# EAGLE library part M221-P68 (library amd-mach)
AMD MACH SERIES
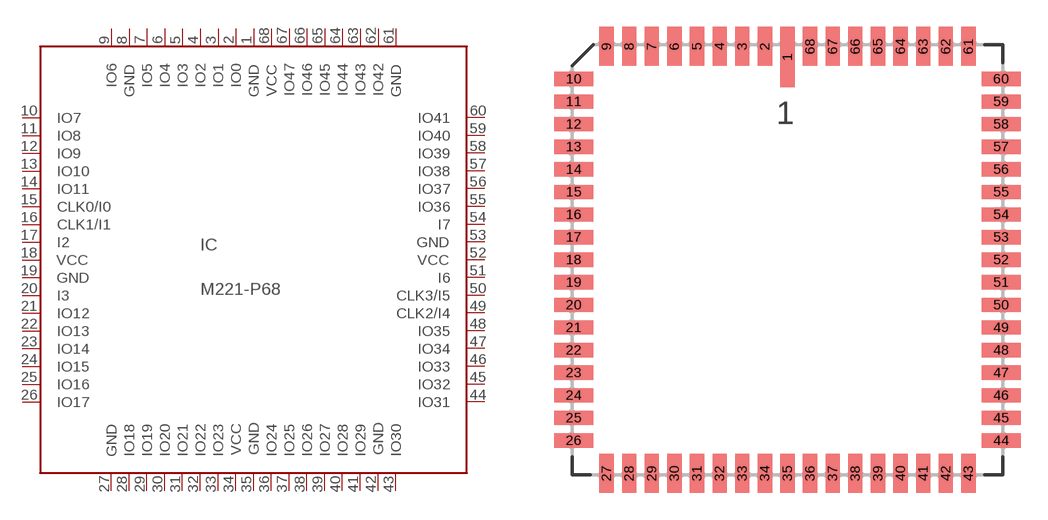
[diagram p27: symbol with the pads of PLCC68; footprint PLCC68]

Designator prefix IC

## M221-P68  [PLCC68]
1  GND  pwr
2  IO0
3  IO1
4  IO2
5  IO3
6  IO4
7  IO5
8  GND  pwr
9  IO6
10  IO7
11  IO8
12  IO9
13  IO10
14  IO11
15  CLK0/I0  in
16  CLK1/I1  in
17  I2  in
18  VCC  pwr
19  GND  pwr
20  I3  in
21  IO12
22  IO13
23  IO14
24  IO15
25  IO16
26  IO17
27  GND  pwr
28  IO18
29  IO19
30  IO20
31  IO21
32  IO22
33  IO23
34  VCC  pwr
35  GND  pwr
36  IO24
37  IO25
38  IO26
39  IO27
40  IO28
41  IO29
42  GND  pwr
43  IO30
44  IO31
45  IO32
46  IO33
47  IO34
48  IO35
49  CLK2/I4  in
50  CLK3/I5  in
51  I6  in
52  VCC  pwr
53  GND  pwr
54  I7  in
55  IO36
56  IO37
57  IO38
58  IO39
59  IO40
60  IO41
61  GND  pwr
62  IO42
63  IO43
64  IO44
65  IO45
66  IO46
67  IO47
68  VCC  pwr

## Footprint PLCC68 (pad centres in mm)
PLASTIC LEADED CHIP CARRIER
smd 0.8 x 3.4: 1 0,11.4
smd 0.8 x 2.2: 2 -1.27,12; 3 -2.54,12; 4 -3.81,12; 5 -5.08,12; 6 -6.35,12; 7 -7.62,12; 8 -8.89,12; 9 -10.16,12; 27 -10.16,-12; 28 -8.89,-12; 29 -7.62,-12; 30 -6.35,-12; 31 -5.08,-12; 32 -3.81,-12; 33 -2.54,-12; 34 -1.27,-12; 35 0,-12; 36 1.27,-12; 37 2.54,-12; 38 3.81,-12; 39 5.08,-12; 40 6.35,-12; 41 7.62,-12; 42 8.89,-12; 43 10.16,-12; 61 10.16,12; 62 8.89,12; 63 7.62,12; 64 6.35,12; 65 5.08,12; 66 3.81,12; 67 2.54,12; 68 1.27,12
smd 2.2 x 0.8: 10 -12,10.16; 11 -12,8.89; 12 -12,7.62; 13 -12,6.35; 14 -12,5.08; 15 -12,3.81; 16 -12,2.54; 17 -12,1.27; 18 -12,0; 19 -12,-1.27; 20 -12,-2.54; 21 -12,-3.81; 22 -12,-5.08; 23 -12,-6.35; 24 -12,-7.62; 25 -12,-8.89; 26 -12,-10.16; 44 12,-10.16; 45 12,-8.89; 46 12,-7.62; 47 12,-6.35; 48 12,-5.08; 49 12,-3.81; 50 12,-2.54; 51 12,-1.27; 52 12,0; 53 12,1.27; 54 12,2.54; 55 12,3.81; 56 12,5.08; 57 12,6.35; 58 12,7.62; 59 12,8.89; 60 12,10.16